# EAGLE library part AS3932 (library AS3932)
AS3932 3D Low Frequency Wakeup Receiver The AS3932 is a 3-channel low power ASK receiver that is able to generate a wake-up upon detection of a data signal which uses a LF carrier frequency between 110 - 150 kHz. The integrated correlator can be used for detection of a programmable 16-bit wake-up pattern. The device can operate using one, two, or three active channels. The AS3932 provides a digital RSSI value for each active channel, it supports a programmable data rate. The AS3932 offers a real-time clock (RTC), which is either derived from a crystal oscillator or the internal RC oscillator. The programmable features of AS3932 enable to optimize its settings for achieving a longer distance while retaining a reliable wake-up generation. The sensitivity level of AS3932 can be adjusted in presence of a strong field or in noisy environments.
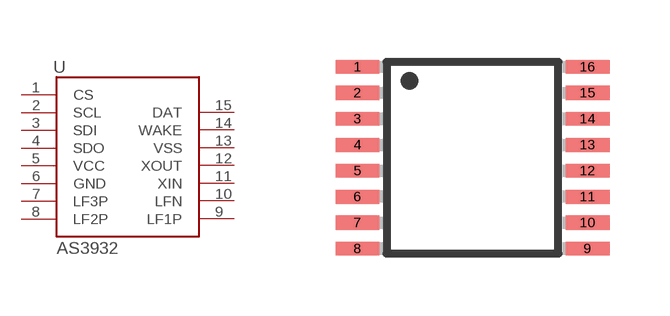
[diagram p0: symbol with the pads of TSSOP16; footprint TSSOP16]

Designator prefix U

## AS3932  [TSSOP16]
1  CS
2  SCL
3  SDI
4  SDO
5  VCC
6  GND
7  LF3P
8  LF2P
9  LF1P
10  LFN
11  XIN
12  XOUT
13  VSS
14  WAKE
15  DAT

## Footprint TSSOP16 (pad centres in mm)
16-Lead Thin Shrink Small Outline Package [TSSOP] (RU-16) Source: 8x ADG1408_1409.pdf
smd 1.1 x 0.35: 1 -2.875,2.275; 2 -2.875,1.625; 3 -2.875,0.975; 4 -2.875,0.325; 5 -2.875,-0.325; 6 -2.875,-0.975; 7 -2.875,-1.625; 8 -2.875,-2.275; 9 2.875,-2.275; 10 2.875,-1.625; 11 2.875,-0.975; 12 2.875,-0.325; 13 2.875,0.325; 14 2.875,0.975; 15 2.875,1.625; 16 2.875,2.275